# Altium footprint library Footprint_PB_Byte.PcbLib: 1 footprints
Each footprint in its own frame and in the unit in brackets; x right, y up, seen from the top. Pads: shape width x height; smd on the part's side, far side on the other; paste and mask are expansions set on the pad; w line width, h text height; cw(c..) or ccw(c..) is an arc to the next point about the centre after c.
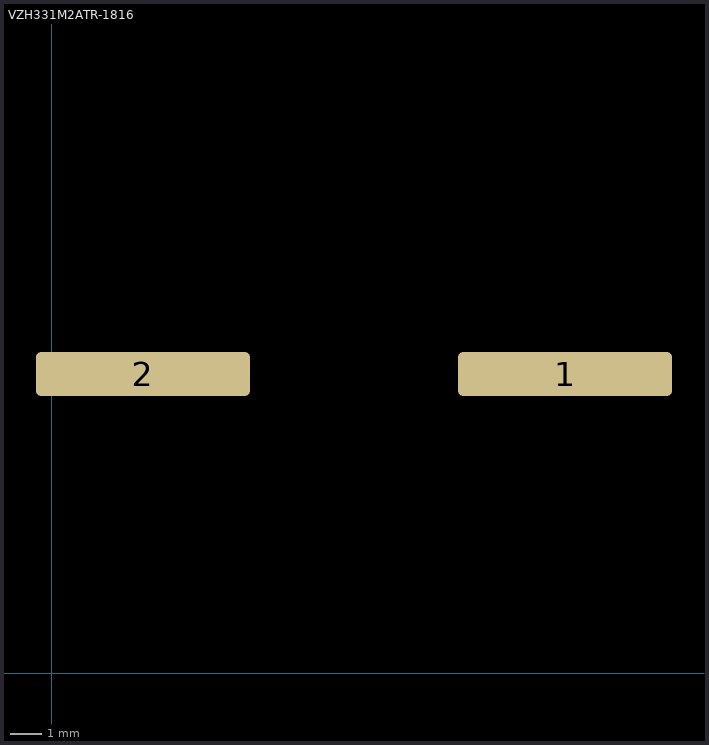
[diagram p0: the footprint, top view; thin cyan lines are the x and y axes]

## VZH331M2ATR-1816 [mm]
pads (2):
  rrect25% 6.8x1.4 smd: 1(16.3,9.5) 2(2.9,9.5)
F.SilkS:
  lines w0.254: 0,0 0,19 16.5,19 19,16.5 19,2.5 16.5,0 0,0
F.Fab:
  text "'.Designator'" at 8.061,-4.398 h1